# Altium integrated library TI Amplifiers and Linear Special Function Amplifier.IntLib: 708 symbols (part 40 of 47)
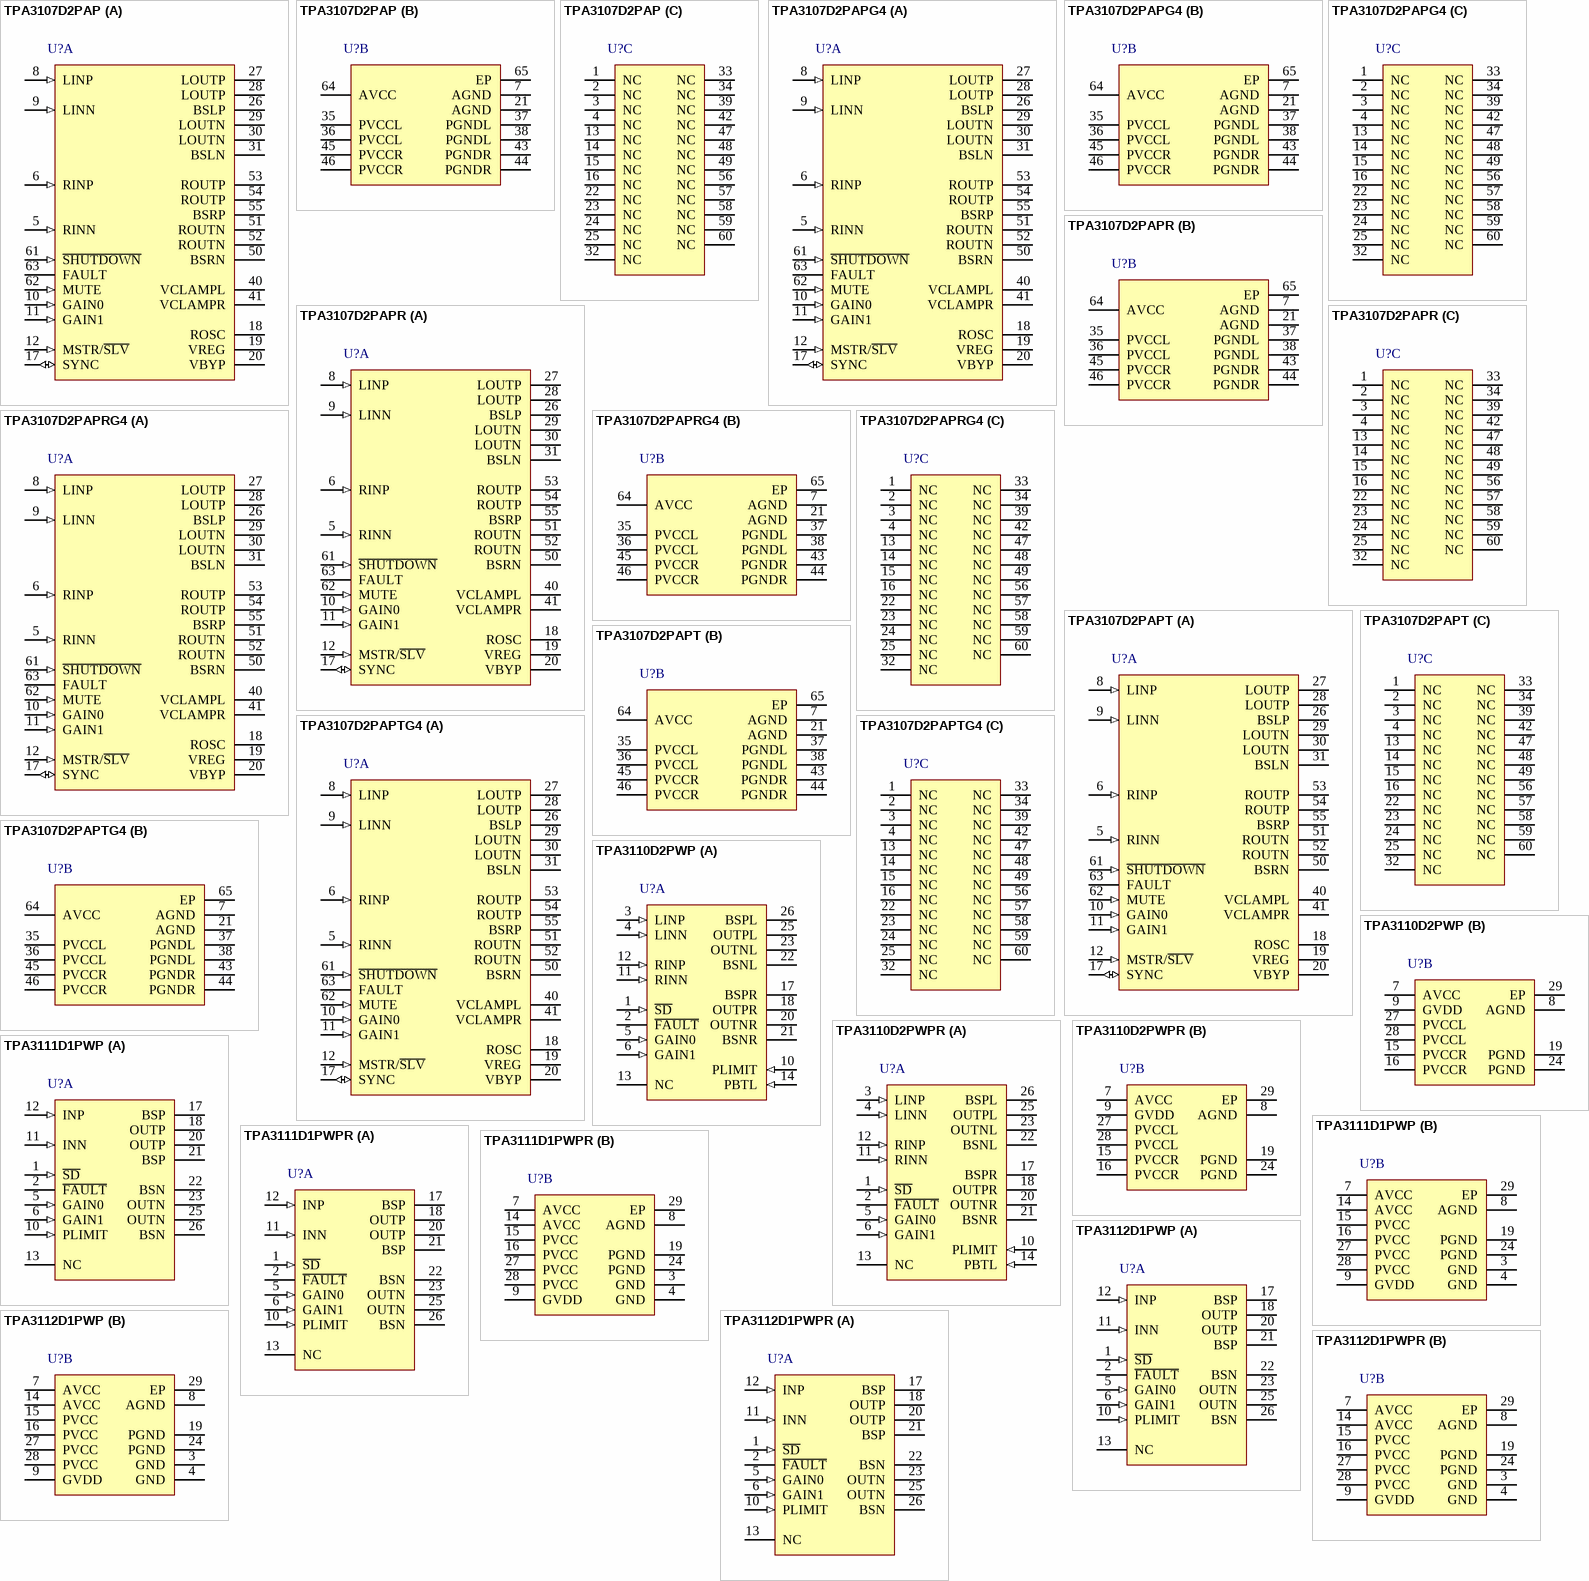
[diagram p78: symbols TPA3107D2PAP to TPA3112D1PWPR]

## TPA3107D2PAPG4
designator U?
15 W Stereo Class-D Audio Power Amplifier, -40 to 85 degC, 64-pin QFP (PAP64), Green (RoHS & no Sb/Br); Manufacturer: Texas Instruments; PartNumber: TPA3107D2PAPG4; Analog Supply Max [V]: 26; Analog Supply Min [V]: 10; Input Type: Analog; Max. Number of Speaker Outputs: 2; SubFamily: Mid/High-Power Amplifier; DatasheetVersion: SLOS509B; PackageVersion: 4147702/C, 08/2003; PackageReference: PAP64-4935X4935TP; PackageDescription: 64-Pin Plastic Flat Pack, Body 10 x 10 mm, Pitch 0.5 mm; Supplier 1: Digi-Key; Supplier Part Number 1: TPA3107D2PAPG4-ND; Supplier 2: Mouser; Supplier Part Number 2: 595-TPA3107D2PAPG4; Eco-Plan: Green (RoHS & no Sb/Br); Power Stage Supply Min(V): 10; Mounting Technology: Surface Mount; Code_JEDEC: MS-026; ComponentLink1Description: Manufacturer URL; ComponentLink1URL: http://www.ti.com/; ComponentLink2Description: Datasheet; ComponentLink2URL: http://www.ti.com/general/docs/lit/getliterature.tsp?genericPartNumber=TPA3107D2&fileType=pdf; ComponentLink3Description: Package Specification; ComponentLink3URL: http://www.ti.com/litv/pdf/mpdi001b
footprint TI-PAP64-4935X4935TP_N (QFP, 64-Leads, Body 10x10mm, Pitch 0.5mm, Thermal Pad 5.3x5.3mm, IPC Medium Density)
footprint TI-PAP64-4935X4935TP_L (QFP, 64-Leads, Body 10x10mm, Pitch 0.5mm, Thermal Pad 5.3x5.3mm, IPC High Density)
footprint TI-PAP64-4935X4935TP_M (QFP, 64-Leads, Body 10x10mm, Pitch 0.5mm, Thermal Pad 5.3x5.3mm, IPC Low Density)
part A pins: 5 RINN (in) "Negative audio input for right channel. Biased at VREG/2.", 6 RINP (in) "Positive audio input for right channel. Biased at VREG/2.", 8 LINP (in) "Positive audio input for left channel. Biased at VREG/2.", 9 LINN (in) "Negative audio input for left channel. Biased at VREG/2.", 10 GAIN0 (in) "Gain select least significant bit. TTL logic levels with compliance to VREG.", 11 GAIN1 (in) "Gain select least significant bit. TTL logic levels with compliance to VREG.", 12 MSTR/~{SLV} (in) "Master/Slave select for determining direction of SYNC terminal.HIGH=Master mode, SYNC terminal is an output; LOW = slave mode, SYNC terminal accepts a clock input. TTL logic levels with compliance to VREG.", 17 SYNC (io) "Clock input/output for synchronizing multiple class-D devices. Direction determined by MSTR/S\L\V\ terminal. Input signal not to exceed VREG", 18 ROSC "I/O for current setting resistor of ramp generator", 19 VREG "4-V regulated output for use by internal cells, GAINx, MUTE, and MSTR/S\L\V\ pins only. Not specified for driving other external circuitry.", 20 VBYP "Reference for preamplifier. Nominally equal to 1.25 V. Also controls start-up time via external capacitor sizing.", 26 BSLP "Bootstrap I/O for left channel, positive high-side FET.", 27 LOUTP (hiz) "Class-D 1/2-H-bridge positive output for left channel.", 28 LOUTP (hiz) "Class-D 1/2-H-bridge positive output for left channel.", 29 LOUTN (hiz) "Class-D 1/2-H-bridge negative output for left channel.", 30 LOUTN (hiz) "Class-D 1/2-H-bridge negative output for left channel.", 31 BSLN "Bootstrap I/O for left channel, negative high-side FET.", 40 VCLAMPL "Internally generated voltage supply for left channel bootstrap capacitor.", 41 VCLAMPR "Internally generated voltage supply for right channel bootstrap capacitor.", 50 BSRN "Bootstrap I/O for right channel, negative high-side FET.", 51 ROUTN (hiz) "Class-D 1/2-H-bridge negative output for right channel.", 52 ROUTN (hiz) "Class-D 1/2-H-bridge negative output for right channel.", 53 ROUTP (hiz) "Class-D 1/2-H-bridge positive output for right channel", 54 ROUTP (hiz) "Class-D 1/2-H-bridge positive output for right channel", 55 BSRP "Bootstrap I/O for right channel, positive high-side FET.", 61 ~{SHUTDOWN} (in) "Shutdown signal for IC (LOW = disabled, HIGH = operational). TTL logic levels with compliance to AVCC.", 62 MUTE (in) "Mute signal for quick disable/enable of outputs (HIGH = outputs high-Z, LOW = outputs enabled). TTL logic levels with compliance to AVCC.", 63 FAULT (hiz) "TTL compatible output. HIGH = short-circuit fault. LOW = no fault. Only reports short-circuit faults. Thermal faults are not reported on this terminal."
part B pins: 7 AGND (power) "Analog ground for digital/analog cells in core.", 21 AGND (power) "Analog ground for digital/analog cells in core.", 35 PVCCL (power) "Power supply for left channel H-bridge, not internally connected to PVCCR or AVCC.", 36 PVCCL (power) "Power supply for left channel H-bridge, not internally connected to PVCCR or AVCC.", 37 PGNDL (power) "Power ground for left channel H-bridge.", 38 PGNDL (power) "Power ground for left channel H-bridge.", 43 PGNDR (power) "Power ground for right channel H-bridge.", 44 PGNDR (power) "Power ground for right channel H-bridge.", 45 PVCCR (power) "Power supply for right channel H-bridge, not connected to PVCCL or AVCC", 46 PVCCR (power) "Power supply for right channel H-bridge, not connected to PVCCL or AVCC", 64 AVCC (power) "High-voltage analog power supply. Not internally connected to PVCCR or PVCCL.", 65 EP (power) "Connect to AGND and PGND - should be star point for both grounds. Internal resistive connection to AGND and PGND. Thermal vias on the PCB should connect this pad to a large copper area on an internal or bottom layer for the (See Datasheet)"
part C pins: 1 NC "Not internally connected", 2 NC "Not internally connected", 3 NC "Not internally connected", 4 NC "Not internally connected", 13 NC "Not internally connected", 14 NC "Not internally connected", 15 NC "Not internally connected", 16 NC "Not internally connected", 22 NC "Not internally connected", 23 NC "Not internally connected", 24 NC "Not internally connected", 25 NC "Not internally connected", 32 NC "Not internally connected", 33 NC "Not internally connected", 34 NC "Not internally connected", 39 NC "Not internally connected", 42 NC "Not internally connected", 47 NC "Not internally connected", 48 NC "Not internally connected", 49 NC "Not internally connected", 56 NC "Not internally connected", 57 NC "Not internally connected", 58 NC "Not internally connected", 59 NC "Not internally connected", 60 NC "Not internally connected"

## TPA3107D2PAPR
designator U?
15 W Stereo Class-D Audio Power Amplifier, -40 to 85 degC, 64-pin QFP (PAP64), Green (RoHS & no Sb/Br); Manufacturer: Texas Instruments; PartNumber: TPA3107D2PAPR; Analog Supply Max [V]: 26; Analog Supply Min [V]: 10; Input Type: Analog; Max. Number of Speaker Outputs: 2; SubFamily: Mid/High-Power Amplifier; DatasheetVersion: SLOS509B; PackageVersion: 4147702/C, 08/2003; PackageReference: PAP64-4935X4935TP; PackageDescription: 64-Pin Plastic Flat Pack, Body 10 x 10 mm, Pitch 0.5 mm; Supplier 1: Digi-Key; Supplier Part Number 1: 296-21343-2-ND; Supplier 2: Digi-Key; Supplier Part Number 2: 296-21343-1-ND; Supplier 3: Digi-Key; Supplier Part Number 3: 296-21343-6-ND; Supplier 4: Mouser; Supplier Part Number 4: 595-TPA3107D2PAPR; Eco-Plan: Green (RoHS & no Sb/Br); Power Stage Supply Min(V): 10; Mounting Technology: Surface Mount; Code_JEDEC: MS-026; ComponentLink1Description: Manufacturer URL; ComponentLink1URL: http://www.ti.com/; ComponentLink2Description: Datasheet; ComponentLink2URL: http://www.ti.com/general/docs/lit/getliterature.tsp?genericPartNumber=TPA3107D2&fileType=pdf; ComponentLink3Description: Package Specification; ComponentLink3URL: http://www.ti.com/litv/pdf/mpdi001b
footprint TI-PAP64-4935X4935TP_N (QFP, 64-Leads, Body 10x10mm, Pitch 0.5mm, Thermal Pad 5.3x5.3mm, IPC Medium Density)
footprint TI-PAP64-4935X4935TP_L (QFP, 64-Leads, Body 10x10mm, Pitch 0.5mm, Thermal Pad 5.3x5.3mm, IPC High Density)
footprint TI-PAP64-4935X4935TP_M (QFP, 64-Leads, Body 10x10mm, Pitch 0.5mm, Thermal Pad 5.3x5.3mm, IPC Low Density)
part A pins: 5 RINN (in) "Negative audio input for right channel. Biased at VREG/2.", 6 RINP (in) "Positive audio input for right channel. Biased at VREG/2.", 8 LINP (in) "Positive audio input for left channel. Biased at VREG/2.", 9 LINN (in) "Negative audio input for left channel. Biased at VREG/2.", 10 GAIN0 (in) "Gain select least significant bit. TTL logic levels with compliance to VREG.", 11 GAIN1 (in) "Gain select least significant bit. TTL logic levels with compliance to VREG.", 12 MSTR/~{SLV} (in) "Master/Slave select for determining direction of SYNC terminal.HIGH=Master mode, SYNC terminal is an output; LOW = slave mode, SYNC terminal accepts a clock input. TTL logic levels with compliance to VREG.", 17 SYNC (io) "Clock input/output for synchronizing multiple class-D devices. Direction determined by MSTR/S\L\V\ terminal. Input signal not to exceed VREG", 18 ROSC "I/O for current setting resistor of ramp generator", 19 VREG "4-V regulated output for use by internal cells, GAINx, MUTE, and MSTR/S\L\V\ pins only. Not specified for driving other external circuitry.", 20 VBYP "Reference for preamplifier. Nominally equal to 1.25 V. Also controls start-up time via external capacitor sizing.", 26 BSLP "Bootstrap I/O for left channel, positive high-side FET.", 27 LOUTP (hiz) "Class-D 1/2-H-bridge positive output for left channel.", 28 LOUTP (hiz) "Class-D 1/2-H-bridge positive output for left channel.", 29 LOUTN (hiz) "Class-D 1/2-H-bridge negative output for left channel.", 30 LOUTN (hiz) "Class-D 1/2-H-bridge negative output for left channel.", 31 BSLN "Bootstrap I/O for left channel, negative high-side FET.", 40 VCLAMPL "Internally generated voltage supply for left channel bootstrap capacitor.", 41 VCLAMPR "Internally generated voltage supply for right channel bootstrap capacitor.", 50 BSRN "Bootstrap I/O for right channel, negative high-side FET.", 51 ROUTN (hiz) "Class-D 1/2-H-bridge negative output for right channel.", 52 ROUTN (hiz) "Class-D 1/2-H-bridge negative output for right channel.", 53 ROUTP (hiz) "Class-D 1/2-H-bridge positive output for right channel", 54 ROUTP (hiz) "Class-D 1/2-H-bridge positive output for right channel", 55 BSRP "Bootstrap I/O for right channel, positive high-side FET.", 61 ~{SHUTDOWN} (in) "Shutdown signal for IC (LOW = disabled, HIGH = operational). TTL logic levels with compliance to AVCC.", 62 MUTE (in) "Mute signal for quick disable/enable of outputs (HIGH = outputs high-Z, LOW = outputs enabled). TTL logic levels with compliance to AVCC.", 63 FAULT (hiz) "TTL compatible output. HIGH = short-circuit fault. LOW = no fault. Only reports short-circuit faults. Thermal faults are not reported on this terminal."
part B pins: 7 AGND (power) "Analog ground for digital/analog cells in core.", 21 AGND (power) "Analog ground for digital/analog cells in core.", 35 PVCCL (power) "Power supply for left channel H-bridge, not internally connected to PVCCR or AVCC.", 36 PVCCL (power) "Power supply for left channel H-bridge, not internally connected to PVCCR or AVCC.", 37 PGNDL (power) "Power ground for left channel H-bridge.", 38 PGNDL (power) "Power ground for left channel H-bridge.", 43 PGNDR (power) "Power ground for right channel H-bridge.", 44 PGNDR (power) "Power ground for right channel H-bridge.", 45 PVCCR (power) "Power supply for right channel H-bridge, not connected to PVCCL or AVCC", 46 PVCCR (power) "Power supply for right channel H-bridge, not connected to PVCCL or AVCC", 64 AVCC (power) "High-voltage analog power supply. Not internally connected to PVCCR or PVCCL.", 65 EP (power) "Connect to AGND and PGND - should be star point for both grounds. Internal resistive connection to AGND and PGND. Thermal vias on the PCB should connect this pad to a large copper area on an internal or bottom layer for the (See Datasheet)"
part C pins: 1 NC "Not internally connected", 2 NC "Not internally connected", 3 NC "Not internally connected", 4 NC "Not internally connected", 13 NC "Not internally connected", 14 NC "Not internally connected", 15 NC "Not internally connected", 16 NC "Not internally connected", 22 NC "Not internally connected", 23 NC "Not internally connected", 24 NC "Not internally connected", 25 NC "Not internally connected", 32 NC "Not internally connected", 33 NC "Not internally connected", 34 NC "Not internally connected", 39 NC "Not internally connected", 42 NC "Not internally connected", 47 NC "Not internally connected", 48 NC "Not internally connected", 49 NC "Not internally connected", 56 NC "Not internally connected", 57 NC "Not internally connected", 58 NC "Not internally connected", 59 NC "Not internally connected", 60 NC "Not internally connected"

## TPA3107D2PAPRG4
designator U?
15 W Stereo Class-D Audio Power Amplifier, -40 to 85 degC, 64-pin QFP (PAP64), Green (RoHS & no Sb/Br); Manufacturer: Texas Instruments; PartNumber: TPA3107D2PAPRG4; Analog Supply Max [V]: 26; Analog Supply Min [V]: 10; Input Type: Analog; Max. Number of Speaker Outputs: 2; SubFamily: Mid/High-Power Amplifier; DatasheetVersion: SLOS509B; PackageVersion: 4147702/C, 08/2003; PackageReference: PAP64-4935X4935TP; PackageDescription: 64-Pin Plastic Flat Pack, Body 10 x 10 mm, Pitch 0.5 mm; Supplier 1: Digi-Key; Supplier Part Number 1: TPA3107D2PAPRG4-ND; Supplier 2: Newark; Supplier Part Number 2: 27M1067; Supplier 3: Mouser; Supplier Part Number 3: 595-TPA3107D2PAPRG4; Eco-Plan: Green (RoHS & no Sb/Br); Power Stage Supply Min(V): 10; Mounting Technology: Surface Mount; Code_JEDEC: MS-026; ComponentLink1Description: Manufacturer URL; ComponentLink1URL: http://www.ti.com/; ComponentLink2Description: Datasheet; ComponentLink2URL: http://www.ti.com/general/docs/lit/getliterature.tsp?genericPartNumber=TPA3107D2&fileType=pdf; ComponentLink3Description: Package Specification; ComponentLink3URL: http://www.ti.com/litv/pdf/mpdi001b
footprint TI-PAP64-4935X4935TP_N (QFP, 64-Leads, Body 10x10mm, Pitch 0.5mm, Thermal Pad 5.3x5.3mm, IPC Medium Density)
footprint TI-PAP64-4935X4935TP_L (QFP, 64-Leads, Body 10x10mm, Pitch 0.5mm, Thermal Pad 5.3x5.3mm, IPC High Density)
footprint TI-PAP64-4935X4935TP_M (QFP, 64-Leads, Body 10x10mm, Pitch 0.5mm, Thermal Pad 5.3x5.3mm, IPC Low Density)
part A pins: 5 RINN (in) "Negative audio input for right channel. Biased at VREG/2.", 6 RINP (in) "Positive audio input for right channel. Biased at VREG/2.", 8 LINP (in) "Positive audio input for left channel. Biased at VREG/2.", 9 LINN (in) "Negative audio input for left channel. Biased at VREG/2.", 10 GAIN0 (in) "Gain select least significant bit. TTL logic levels with compliance to VREG.", 11 GAIN1 (in) "Gain select least significant bit. TTL logic levels with compliance to VREG.", 12 MSTR/~{SLV} (in) "Master/Slave select for determining direction of SYNC terminal.HIGH=Master mode, SYNC terminal is an output; LOW = slave mode, SYNC terminal accepts a clock input. TTL logic levels with compliance to VREG.", 17 SYNC (io) "Clock input/output for synchronizing multiple class-D devices. Direction determined by MSTR/S\L\V\ terminal. Input signal not to exceed VREG", 18 ROSC "I/O for current setting resistor of ramp generator", 19 VREG "4-V regulated output for use by internal cells, GAINx, MUTE, and MSTR/S\L\V\ pins only. Not specified for driving other external circuitry.", 20 VBYP "Reference for preamplifier. Nominally equal to 1.25 V. Also controls start-up time via external capacitor sizing.", 26 BSLP "Bootstrap I/O for left channel, positive high-side FET.", 27 LOUTP (hiz) "Class-D 1/2-H-bridge positive output for left channel.", 28 LOUTP (hiz) "Class-D 1/2-H-bridge positive output for left channel.", 29 LOUTN (hiz) "Class-D 1/2-H-bridge negative output for left channel.", 30 LOUTN (hiz) "Class-D 1/2-H-bridge negative output for left channel.", 31 BSLN "Bootstrap I/O for left channel, negative high-side FET.", 40 VCLAMPL "Internally generated voltage supply for left channel bootstrap capacitor.", 41 VCLAMPR "Internally generated voltage supply for right channel bootstrap capacitor.", 50 BSRN "Bootstrap I/O for right channel, negative high-side FET.", 51 ROUTN (hiz) "Class-D 1/2-H-bridge negative output for right channel.", 52 ROUTN (hiz) "Class-D 1/2-H-bridge negative output for right channel.", 53 ROUTP (hiz) "Class-D 1/2-H-bridge positive output for right channel", 54 ROUTP (hiz) "Class-D 1/2-H-bridge positive output for right channel", 55 BSRP "Bootstrap I/O for right channel, positive high-side FET.", 61 ~{SHUTDOWN} (in) "Shutdown signal for IC (LOW = disabled, HIGH = operational). TTL logic levels with compliance to AVCC.", 62 MUTE (in) "Mute signal for quick disable/enable of outputs (HIGH = outputs high-Z, LOW = outputs enabled). TTL logic levels with compliance to AVCC.", 63 FAULT (hiz) "TTL compatible output. HIGH = short-circuit fault. LOW = no fault. Only reports short-circuit faults. Thermal faults are not reported on this terminal."
part B pins: 7 AGND (power) "Analog ground for digital/analog cells in core.", 21 AGND (power) "Analog ground for digital/analog cells in core.", 35 PVCCL (power) "Power supply for left channel H-bridge, not internally connected to PVCCR or AVCC.", 36 PVCCL (power) "Power supply for left channel H-bridge, not internally connected to PVCCR or AVCC.", 37 PGNDL (power) "Power ground for left channel H-bridge.", 38 PGNDL (power) "Power ground for left channel H-bridge.", 43 PGNDR (power) "Power ground for right channel H-bridge.", 44 PGNDR (power) "Power ground for right channel H-bridge.", 45 PVCCR (power) "Power supply for right channel H-bridge, not connected to PVCCL or AVCC", 46 PVCCR (power) "Power supply for right channel H-bridge, not connected to PVCCL or AVCC", 64 AVCC (power) "High-voltage analog power supply. Not internally connected to PVCCR or PVCCL.", 65 EP (power) "Connect to AGND and PGND - should be star point for both grounds. Internal resistive connection to AGND and PGND. Thermal vias on the PCB should connect this pad to a large copper area on an internal or bottom layer for the (See Datasheet)"
part C pins: 1 NC "Not internally connected", 2 NC "Not internally connected", 3 NC "Not internally connected", 4 NC "Not internally connected", 13 NC "Not internally connected", 14 NC "Not internally connected", 15 NC "Not internally connected", 16 NC "Not internally connected", 22 NC "Not internally connected", 23 NC "Not internally connected", 24 NC "Not internally connected", 25 NC "Not internally connected", 32 NC "Not internally connected", 33 NC "Not internally connected", 34 NC "Not internally connected", 39 NC "Not internally connected", 42 NC "Not internally connected", 47 NC "Not internally connected", 48 NC "Not internally connected", 49 NC "Not internally connected", 56 NC "Not internally connected", 57 NC "Not internally connected", 58 NC "Not internally connected", 59 NC "Not internally connected", 60 NC "Not internally connected"

## TPA3107D2PAPT
designator U?
15 W Stereo Class-D Audio Power Amplifier, -40 to 85 degC, 64-pin QFP (PAP64), Green (RoHS & no Sb/Br); Manufacturer: Texas Instruments; PartNumber: TPA3107D2PAPT; Analog Supply Max [V]: 26; Analog Supply Min [V]: 10; Input Type: Analog; Max. Number of Speaker Outputs: 2; SubFamily: Mid/High-Power Amplifier; DatasheetVersion: SLOS509B; PackageVersion: 4147702/C, 08/2003; PackageReference: PAP64-4935X4935TP; PackageDescription: 64-Pin Plastic Flat Pack, Body 10 x 10 mm, Pitch 0.5 mm; Supplier 1: Digi-Key; Supplier Part Number 1: TPA3107D2PAPT-ND; Supplier 2: Mouser; Supplier Part Number 2: 595-TPA3107D2PAPT; Eco-Plan: Green (RoHS & no Sb/Br); Power Stage Supply Min(V): 10; Mounting Technology: Surface Mount; Code_JEDEC: MS-026; ComponentLink1Description: Manufacturer URL; ComponentLink1URL: http://www.ti.com/; ComponentLink2Description: Datasheet; ComponentLink2URL: http://www.ti.com/general/docs/lit/getliterature.tsp?genericPartNumber=TPA3107D2&fileType=pdf; ComponentLink3Description: Package Specification; ComponentLink3URL: http://www.ti.com/litv/pdf/mpdi001b
footprint TI-PAP64-4935X4935TP_N (QFP, 64-Leads, Body 10x10mm, Pitch 0.5mm, Thermal Pad 5.3x5.3mm, IPC Medium Density)
footprint TI-PAP64-4935X4935TP_L (QFP, 64-Leads, Body 10x10mm, Pitch 0.5mm, Thermal Pad 5.3x5.3mm, IPC High Density)
footprint TI-PAP64-4935X4935TP_M (QFP, 64-Leads, Body 10x10mm, Pitch 0.5mm, Thermal Pad 5.3x5.3mm, IPC Low Density)
part A pins: 5 RINN (in) "Negative audio input for right channel. Biased at VREG/2.", 6 RINP (in) "Positive audio input for right channel. Biased at VREG/2.", 8 LINP (in) "Positive audio input for left channel. Biased at VREG/2.", 9 LINN (in) "Negative audio input for left channel. Biased at VREG/2.", 10 GAIN0 (in) "Gain select least significant bit. TTL logic levels with compliance to VREG.", 11 GAIN1 (in) "Gain select least significant bit. TTL logic levels with compliance to VREG.", 12 MSTR/~{SLV} (in) "Master/Slave select for determining direction of SYNC terminal.HIGH=Master mode, SYNC terminal is an output; LOW = slave mode, SYNC terminal accepts a clock input. TTL logic levels with compliance to VREG.", 17 SYNC (io) "Clock input/output for synchronizing multiple class-D devices. Direction determined by MSTR/S\L\V\ terminal. Input signal not to exceed VREG", 18 ROSC "I/O for current setting resistor of ramp generator", 19 VREG "4-V regulated output for use by internal cells, GAINx, MUTE, and MSTR/S\L\V\ pins only. Not specified for driving other external circuitry.", 20 VBYP "Reference for preamplifier. Nominally equal to 1.25 V. Also controls start-up time via external capacitor sizing.", 26 BSLP "Bootstrap I/O for left channel, positive high-side FET.", 27 LOUTP (hiz) "Class-D 1/2-H-bridge positive output for left channel.", 28 LOUTP (hiz) "Class-D 1/2-H-bridge positive output for left channel.", 29 LOUTN (hiz) "Class-D 1/2-H-bridge negative output for left channel.", 30 LOUTN (hiz) "Class-D 1/2-H-bridge negative output for left channel.", 31 BSLN "Bootstrap I/O for left channel, negative high-side FET.", 40 VCLAMPL "Internally generated voltage supply for left channel bootstrap capacitor.", 41 VCLAMPR "Internally generated voltage supply for right channel bootstrap capacitor.", 50 BSRN "Bootstrap I/O for right channel, negative high-side FET.", 51 ROUTN (hiz) "Class-D 1/2-H-bridge negative output for right channel.", 52 ROUTN (hiz) "Class-D 1/2-H-bridge negative output for right channel.", 53 ROUTP (hiz) "Class-D 1/2-H-bridge positive output for right channel", 54 ROUTP (hiz) "Class-D 1/2-H-bridge positive output for right channel", 55 BSRP "Bootstrap I/O for right channel, positive high-side FET.", 61 ~{SHUTDOWN} (in) "Shutdown signal for IC (LOW = disabled, HIGH = operational). TTL logic levels with compliance to AVCC.", 62 MUTE (in) "Mute signal for quick disable/enable of outputs (HIGH = outputs high-Z, LOW = outputs enabled). TTL logic levels with compliance to AVCC.", 63 FAULT (hiz) "TTL compatible output. HIGH = short-circuit fault. LOW = no fault. Only reports short-circuit faults. Thermal faults are not reported on this terminal."
part B pins: 7 AGND (power) "Analog ground for digital/analog cells in core.", 21 AGND (power) "Analog ground for digital/analog cells in core.", 35 PVCCL (power) "Power supply for left channel H-bridge, not internally connected to PVCCR or AVCC.", 36 PVCCL (power) "Power supply for left channel H-bridge, not internally connected to PVCCR or AVCC.", 37 PGNDL (power) "Power ground for left channel H-bridge.", 38 PGNDL (power) "Power ground for left channel H-bridge.", 43 PGNDR (power) "Power ground for right channel H-bridge.", 44 PGNDR (power) "Power ground for right channel H-bridge.", 45 PVCCR (power) "Power supply for right channel H-bridge, not connected to PVCCL or AVCC", 46 PVCCR (power) "Power supply for right channel H-bridge, not connected to PVCCL or AVCC", 64 AVCC (power) "High-voltage analog power supply. Not internally connected to PVCCR or PVCCL.", 65 EP (power) "Connect to AGND and PGND - should be star point for both grounds. Internal resistive connection to AGND and PGND. Thermal vias on the PCB should connect this pad to a large copper area on an internal or bottom layer for the (See Datasheet)"
part C pins: 1 NC "Not internally connected", 2 NC "Not internally connected", 3 NC "Not internally connected", 4 NC "Not internally connected", 13 NC "Not internally connected", 14 NC "Not internally connected", 15 NC "Not internally connected", 16 NC "Not internally connected", 22 NC "Not internally connected", 23 NC "Not internally connected", 24 NC "Not internally connected", 25 NC "Not internally connected", 32 NC "Not internally connected", 33 NC "Not internally connected", 34 NC "Not internally connected", 39 NC "Not internally connected", 42 NC "Not internally connected", 47 NC "Not internally connected", 48 NC "Not internally connected", 49 NC "Not internally connected", 56 NC "Not internally connected", 57 NC "Not internally connected", 58 NC "Not internally connected", 59 NC "Not internally connected", 60 NC "Not internally connected"

## TPA3107D2PAPTG4
designator U?
15 W Stereo Class-D Audio Power Amplifier, -40 to 85 degC, 64-pin QFP (PAP64), Green (RoHS & no Sb/Br); Manufacturer: Texas Instruments; PartNumber: TPA3107D2PAPTG4; Analog Supply Max [V]: 26; Analog Supply Min [V]: 10; Input Type: Analog; Max. Number of Speaker Outputs: 2; SubFamily: Mid/High-Power Amplifier; DatasheetVersion: SLOS509B; PackageVersion: 4147702/C, 08/2003; PackageReference: PAP64-4935X4935TP; PackageDescription: 64-Pin Plastic Flat Pack, Body 10 x 10 mm, Pitch 0.5 mm; Supplier 1: Digi-Key; Supplier Part Number 1: TPA3107D2PAPTG4-ND; Supplier 2: Newark; Supplier Part Number 2: 27M1068; Supplier 3: Mouser; Supplier Part Number 3: 595-TPA3107D2PAPTG4; Eco-Plan: Green (RoHS & no Sb/Br); Power Stage Supply Min(V): 10; Mounting Technology: Surface Mount; Code_JEDEC: MS-026; ComponentLink1Description: Manufacturer URL; ComponentLink1URL: http://www.ti.com/; ComponentLink2Description: Datasheet; ComponentLink2URL: http://www.ti.com/general/docs/lit/getliterature.tsp?genericPartNumber=TPA3107D2&fileType=pdf; ComponentLink3Description: Package Specification; ComponentLink3URL: http://www.ti.com/litv/pdf/mpdi001b
footprint TI-PAP64-4935X4935TP_N (QFP, 64-Leads, Body 10x10mm, Pitch 0.5mm, Thermal Pad 5.3x5.3mm, IPC Medium Density)
footprint TI-PAP64-4935X4935TP_L (QFP, 64-Leads, Body 10x10mm, Pitch 0.5mm, Thermal Pad 5.3x5.3mm, IPC High Density)
footprint TI-PAP64-4935X4935TP_M (QFP, 64-Leads, Body 10x10mm, Pitch 0.5mm, Thermal Pad 5.3x5.3mm, IPC Low Density)
part A pins: 5 RINN (in) "Negative audio input for right channel. Biased at VREG/2.", 6 RINP (in) "Positive audio input for right channel. Biased at VREG/2.", 8 LINP (in) "Positive audio input for left channel. Biased at VREG/2.", 9 LINN (in) "Negative audio input for left channel. Biased at VREG/2.", 10 GAIN0 (in) "Gain select least significant bit. TTL logic levels with compliance to VREG.", 11 GAIN1 (in) "Gain select least significant bit. TTL logic levels with compliance to VREG.", 12 MSTR/~{SLV} (in) "Master/Slave select for determining direction of SYNC terminal.HIGH=Master mode, SYNC terminal is an output; LOW = slave mode, SYNC terminal accepts a clock input. TTL logic levels with compliance to VREG.", 17 SYNC (io) "Clock input/output for synchronizing multiple class-D devices. Direction determined by MSTR/S\L\V\ terminal. Input signal not to exceed VREG", 18 ROSC "I/O for current setting resistor of ramp generator", 19 VREG "4-V regulated output for use by internal cells, GAINx, MUTE, and MSTR/S\L\V\ pins only. Not specified for driving other external circuitry.", 20 VBYP "Reference for preamplifier. Nominally equal to 1.25 V. Also controls start-up time via external capacitor sizing.", 26 BSLP "Bootstrap I/O for left channel, positive high-side FET.", 27 LOUTP (hiz) "Class-D 1/2-H-bridge positive output for left channel.", 28 LOUTP (hiz) "Class-D 1/2-H-bridge positive output for left channel.", 29 LOUTN (hiz) "Class-D 1/2-H-bridge negative output for left channel.", 30 LOUTN (hiz) "Class-D 1/2-H-bridge negative output for left channel.", 31 BSLN "Bootstrap I/O for left channel, negative high-side FET.", 40 VCLAMPL "Internally generated voltage supply for left channel bootstrap capacitor.", 41 VCLAMPR "Internally generated voltage supply for right channel bootstrap capacitor.", 50 BSRN "Bootstrap I/O for right channel, negative high-side FET.", 51 ROUTN (hiz) "Class-D 1/2-H-bridge negative output for right channel.", 52 ROUTN (hiz) "Class-D 1/2-H-bridge negative output for right channel.", 53 ROUTP (hiz) "Class-D 1/2-H-bridge positive output for right channel", 54 ROUTP (hiz) "Class-D 1/2-H-bridge positive output for right channel", 55 BSRP "Bootstrap I/O for right channel, positive high-side FET.", 61 ~{SHUTDOWN} (in) "Shutdown signal for IC (LOW = disabled, HIGH = operational). TTL logic levels with compliance to AVCC.", 62 MUTE (in) "Mute signal for quick disable/enable of outputs (HIGH = outputs high-Z, LOW = outputs enabled). TTL logic levels with compliance to AVCC.", 63 FAULT (hiz) "TTL compatible output. HIGH = short-circuit fault. LOW = no fault. Only reports short-circuit faults. Thermal faults are not reported on this terminal."
part B pins: 7 AGND (power) "Analog ground for digital/analog cells in core.", 21 AGND (power) "Analog ground for digital/analog cells in core.", 35 PVCCL (power) "Power supply for left channel H-bridge, not internally connected to PVCCR or AVCC.", 36 PVCCL (power) "Power supply for left channel H-bridge, not internally connected to PVCCR or AVCC.", 37 PGNDL (power) "Power ground for left channel H-bridge.", 38 PGNDL (power) "Power ground for left channel H-bridge.", 43 PGNDR (power) "Power ground for right channel H-bridge.", 44 PGNDR (power) "Power ground for right channel H-bridge.", 45 PVCCR (power) "Power supply for right channel H-bridge, not connected to PVCCL or AVCC", 46 PVCCR (power) "Power supply for right channel H-bridge, not connected to PVCCL or AVCC", 64 AVCC (power) "High-voltage analog power supply. Not internally connected to PVCCR or PVCCL.", 65 EP (power) "Connect to AGND and PGND - should be star point for both grounds. Internal resistive connection to AGND and PGND. Thermal vias on the PCB should connect this pad to a large copper area on an internal or bottom layer for the (See Datasheet)"
part C pins: 1 NC "Not internally connected", 2 NC "Not internally connected", 3 NC "Not internally connected", 4 NC "Not internally connected", 13 NC "Not internally connected", 14 NC "Not internally connected", 15 NC "Not internally connected", 16 NC "Not internally connected", 22 NC "Not internally connected", 23 NC "Not internally connected", 24 NC "Not internally connected", 25 NC "Not internally connected", 32 NC "Not internally connected", 33 NC "Not internally connected", 34 NC "Not internally connected", 39 NC "Not internally connected", 42 NC "Not internally connected", 47 NC "Not internally connected", 48 NC "Not internally connected", 49 NC "Not internally connected", 56 NC "Not internally connected", 57 NC "Not internally connected", 58 NC "Not internally connected", 59 NC "Not internally connected", 60 NC "Not internally connected"

## TPA3110D2PWP
designator U?
15 W Filter-Free Class D Stereo Amplifier with SpeakerGuard(TM), -40 to 85 degC, 28-pin SOP (PWP28), Green (RoHS & no Sb/Br); Manufacturer: Texas Instruments; PartNumber: TPA3110D2PWP; Analog Supply Max [V]: 26; Analog Supply Min [V]: 8; Input Type: Analog; Max. Number of Speaker Outputs: 2; SubFamily: Mid/High-Power Amplifier; DatasheetVersion: SLOS528D; PackageVersion: 4073225-6/I, 05/2011; PackageReference: PWP28-5720X1950TP; PackageDescription: 28-Pin Plastic Small Outline, Body 4.4 x 9.7 mm, Pitch 0.65 mm; Supplier 1: Digi-Key; Supplier Part Number 1: 296-24968-5-ND; Supplier 2: Farnell; Supplier Part Number 2: 1762986; Supplier 3: Mouser; Supplier Part Number 3: 595-TPA3110D2PWP; Eco-Plan: Green (RoHS & no Sb/Br); Power Stage Supply Min(V): 8; Mounting Technology: Surface Mount; Code_JEDEC: MO-153; ComponentLink1Description: Manufacturer URL; ComponentLink1URL: http://www.ti.com/; ComponentLink2Description: Datasheet; ComponentLink2URL: http://www.ti.com/general/docs/lit/getliterature.tsp?genericPartNumber=TPA3110D2&fileType=pdf; ComponentLink3Description: Package Specification; ComponentLink3URL: http://www.ti.com/litv/pdf/mpds373
footprint TI-PWP28-5720X1950TP_N (SOP, 28-Leads, Body 9.8x4.5mm, Pitch 0.65mm, Thermal Pad 6.17x2.4mm, IPC Medium Density)
footprint TI-PWP28-5720X1950TP_L (SOP, 28-Leads, Body 9.8x4.5mm, Pitch 0.65mm, Thermal Pad 6.17x2.4mm, IPC High Density)
footprint TI-PWP28-5720X1950TP_M (SOP, 28-Leads, Body 9.8x4.5mm, Pitch 0.65mm, Thermal Pad 6.17x2.4mm, IPC Low Density)
part A pins: 1 ~{SD} (in) "Shutdown logic input for audio amp (LOW = outputs Hi-Z, HIGH = outputs enabled). TTL logic levels with compliance to AVCC.", 2 ~{FAULT} (oc) "Open drain output used to display short circuit or dc detect fault status. Voltage compliant to AVCC. Short circuit faults can be set to auto-recovery by connecting F\A\U\L\T\ pin to S\D\ pin. Otherwise, both short circuit (See Datasheet)", 3 LINP (in) "Positive audio input for left channel. Biased at 3V.", 4 LINN (in) "Negative audio input for left channel. Biased at 3V.", 5 GAIN0 (in) "Gain select least significant bit. TTL logic levels with compliance to AVCC.", 6 GAIN1 (in) "Gain select most significant bit. TTL logic levels with compliance to AVCC.", 10 PLIMIT (in) "Power limit level adjust. Connect a resistor divider from GVDD to GND to set power limit. Connect directly to GVDD for no power limit", 11 RINN (in) "Negative audio input for right channel. Biased at 3V.", 12 RINP (in) "Positive audio input for right channel. Biased at 3V.", 13 NC "Not connected", 14 PBTL (in) "Parallel BTL mode switch", 17 BSPR "Bootstrap I/O for right channel, positive high-side FET.", 18 OUTPR (hiz) "Class-D H-bridge positive output for right channel.", 20 OUTNR (hiz) "Class-D H-bridge negative output for right channel.", 21 BSNR "Bootstrap I/O for right channel, negative high-side FET.", 22 BSNL "Bootstrap I/O for left channel, negative high-side FET.", 23 OUTNL (hiz) "Class-D H-bridge negative output for left channel.", 25 OUTPL (hiz) "Class-D H-bridge positive output for left channel.", 26 BSPL "Bootstrap I/O for left channel, positive high-side FET."
part B pins: 7 AVCC (power) "Analog supply", 8 AGND (power) "Analog signal ground. Connect to the thermal pad.", 9 GVDD (power) "High-side FET gate drive supply. Nominal voltage is 7V. Also should be used as supply for PLIMIT function", 15 PVCCR (power) "Power supply for right channel H-bridge. Right channel and left channel power supply inputs are connect internally", 16 PVCCR (power) "Power supply for right channel H-bridge. Right channel and left channel power supply inputs are connect internally.", 19 PGND (power) "Power ground for the H-bridges.", 24 PGND (power) "Power ground for the H-bridges.", 27 PVCCL (power) "Power supply for left channel H-bridge. Right channel and left channel power supply inputs are connect internally", 28 PVCCL (power) "Power supply for left channel H-bridge. Right channel and left channel power supply inputs are connect internally", 29 EP (power)

## TPA3110D2PWPR
designator U?
15 W Filter-Free Class D Stereo Amplifier with SpeakerGuard(TM), -40 to 85 degC, 28-pin SOP (PWP28), Green (RoHS & no Sb/Br); Manufacturer: Texas Instruments; PartNumber: TPA3110D2PWPR; Analog Supply Max [V]: 26; Analog Supply Min [V]: 8; Input Type: Analog; Max. Number of Speaker Outputs: 2; SubFamily: Mid/High-Power Amplifier; DatasheetVersion: SLOS528D; PackageVersion: 4073225-6/I, 05/2011; PackageReference: PWP28-5720X1950TP; PackageDescription: 28-Pin Plastic Small Outline, Body 4.4 x 9.7 mm, Pitch 0.65 mm; Supplier 1: Digi-Key; Supplier Part Number 1: 296-24926-2-ND; Supplier 2: Digi-Key; Supplier Part Number 2: 296-24926-1-ND; Supplier 3: Digi-Key; Supplier Part Number 3: 296-24926-6-ND; Supplier 4: Farnell; Supplier Part Number 4: 2352262; Supplier 5: Newark; Supplier Part Number 5: 50R8085; Supplier 6: Newark; Supplier Part Number 6: 87W8576; Supplier 7: Mouser; Supplier Part Number 7: 595-TPA3110D2PWPR; Eco-Plan: Green (RoHS & no Sb/Br); Power Stage Supply Min(V): 8; Mounting Technology: Surface Mount; Code_JEDEC: MO-153; ComponentLink1Description: Manufacturer URL; ComponentLink1URL: http://www.ti.com/; ComponentLink2Description: Datasheet; ComponentLink2URL: http://www.ti.com/general/docs/lit/getliterature.tsp?genericPartNumber=TPA3110D2&fileType=pdf; ComponentLink3Description: Package Specification; ComponentLink3URL: http://www.ti.com/litv/pdf/mpds373
footprint TI-PWP28-5720X1950TP_N (SOP, 28-Leads, Body 9.8x4.5mm, Pitch 0.65mm, Thermal Pad 6.17x2.4mm, IPC Medium Density)
footprint TI-PWP28-5720X1950TP_L (SOP, 28-Leads, Body 9.8x4.5mm, Pitch 0.65mm, Thermal Pad 6.17x2.4mm, IPC High Density)
footprint TI-PWP28-5720X1950TP_M (SOP, 28-Leads, Body 9.8x4.5mm, Pitch 0.65mm, Thermal Pad 6.17x2.4mm, IPC Low Density)
part A pins: 1 ~{SD} (in) "Shutdown logic input for audio amp (LOW = outputs Hi-Z, HIGH = outputs enabled). TTL logic levels with compliance to AVCC.", 2 ~{FAULT} (oc) "Open drain output used to display short circuit or dc detect fault status. Voltage compliant to AVCC. Short circuit faults can be set to auto-recovery by connecting F\A\U\L\T\ pin to S\D\ pin. Otherwise, both short circuit (See Datasheet)", 3 LINP (in) "Positive audio input for left channel. Biased at 3V.", 4 LINN (in) "Negative audio input for left channel. Biased at 3V.", 5 GAIN0 (in) "Gain select least significant bit. TTL logic levels with compliance to AVCC.", 6 GAIN1 (in) "Gain select most significant bit. TTL logic levels with compliance to AVCC.", 10 PLIMIT (in) "Power limit level adjust. Connect a resistor divider from GVDD to GND to set power limit. Connect directly to GVDD for no power limit", 11 RINN (in) "Negative audio input for right channel. Biased at 3V.", 12 RINP (in) "Positive audio input for right channel. Biased at 3V.", 13 NC "Not connected", 14 PBTL (in) "Parallel BTL mode switch", 17 BSPR "Bootstrap I/O for right channel, positive high-side FET.", 18 OUTPR (hiz) "Class-D H-bridge positive output for right channel.", 20 OUTNR (hiz) "Class-D H-bridge negative output for right channel.", 21 BSNR "Bootstrap I/O for right channel, negative high-side FET.", 22 BSNL "Bootstrap I/O for left channel, negative high-side FET.", 23 OUTNL (hiz) "Class-D H-bridge negative output for left channel.", 25 OUTPL (hiz) "Class-D H-bridge positive output for left channel.", 26 BSPL "Bootstrap I/O for left channel, positive high-side FET."
part B pins: 7 AVCC (power) "Analog supply", 8 AGND (power) "Analog signal ground. Connect to the thermal pad.", 9 GVDD (power) "High-side FET gate drive supply. Nominal voltage is 7V. Also should be used as supply for PLIMIT function", 15 PVCCR (power) "Power supply for right channel H-bridge. Right channel and left channel power supply inputs are connect internally", 16 PVCCR (power) "Power supply for right channel H-bridge. Right channel and left channel power supply inputs are connect internally.", 19 PGND (power) "Power ground for the H-bridges.", 24 PGND (power) "Power ground for the H-bridges.", 27 PVCCL (power) "Power supply for left channel H-bridge. Right channel and left channel power supply inputs are connect internally", 28 PVCCL (power) "Power supply for left channel H-bridge. Right channel and left channel power supply inputs are connect internally", 29 EP (power)

## TPA3111D1PWP
designator U?
10 W Mono Class-D Audio Power Amplifier with SpeakerGuard(TM), -40 to 85 degC, 28-pin SOP (PWP28), Green (RoHS & no Sb/Br); Manufacturer: Texas Instruments; PartNumber: TPA3111D1PWP; Analog Supply Max [V]: 26; Analog Supply Min [V]: 8; Input Type: Analog; Max. Number of Speaker Outputs: 1; SubFamily: Mid/High-Power Amplifier; DatasheetVersion: SLOS618C; PackageVersion: 4073225-6/I, 05/2011; PackageReference: PWP28-5720X1950TP; PackageDescription: 28-Pin Plastic Small Outline, Body 4.4 x 9.7 mm, Pitch 0.65 mm; Supplier 1: Digi-Key; Supplier Part Number 1: 296-25128-5-ND; Supplier 2: Farnell; Supplier Part Number 2: 2323268; Supplier 3: Newark; Supplier Part Number 3: 96W3389; Supplier 4: Newark; Supplier Part Number 4: 26R5217; Supplier 5: Mouser; Supplier Part Number 5: 595-TPA3111D1PWP; Eco-Plan: Green (RoHS & no Sb/Br); Power Stage Supply Min(V): 8; Mounting Technology: Surface Mount; Code_JEDEC: MO-153; ComponentLink1Description: Manufacturer URL; ComponentLink1URL: http://www.ti.com/; ComponentLink2Description: Datasheet; ComponentLink2URL: http://www.ti.com/general/docs/lit/getliterature.tsp?genericPartNumber=TPA3111D1&fileType=pdf; ComponentLink3Description: Package Specification; ComponentLink3URL: http://www.ti.com/litv/pdf/mpds373
footprint TI-PWP28-5720X1950TP_N (SOP, 28-Leads, Body 9.8x4.5mm, Pitch 0.65mm, Thermal Pad 6.17x2.4mm, IPC Medium Density)
footprint TI-PWP28-5720X1950TP_L (SOP, 28-Leads, Body 9.8x4.5mm, Pitch 0.65mm, Thermal Pad 6.17x2.4mm, IPC High Density)
footprint TI-PWP28-5720X1950TP_M (SOP, 28-Leads, Body 9.8x4.5mm, Pitch 0.65mm, Thermal Pad 6.17x2.4mm, IPC Low Density)
part A pins: 1 ~{SD} (in) "Shutdown logic input for audio amp(LOW = outputs Hi-Z, HIGH = outputs enabled). TTL logic levels with compliance to AVCC.", 2 ~{FAULT} (oc) "Open drain output used to display short circuit or dc detect fault status. Voltage compliant to AVCC. Short circuit faults can be set to auto-recovery by connecting F\A\U\L\T\ pin to S\D\ pin. Otherwise bothe short circuit (See Datasheet)", 5 GAIN0 (in) "Gain select least significant bit. TTL logic levels with compliance to AVCC.", 6 GAIN1 (in) "Gain select most significant bit. TTL logic levels with compliance to AVCC.", 10 PLIMIT (in) "Power limit level adjust. Connect directly to GVDD pin for no power limiting. Add a 1uF cap to ground at this pin.", 11 INN (in) "Negative audio input. Biased at 3V.", 12 INP (in) "Positive audio input. Biased at 3V.", 13 NC "Not connected", 17 BSP "Bootstrap I/O for positive high-side FET.", 18 OUTP (hiz) "Class-D H-bridge positive output.", 20 OUTP (hiz) "Class-D H-bridge positive output.", 21 BSP "Bootstrap I/O for positive high-side FET.", 22 BSN "Bootstrap I/O for negative high-side FET.", 23 OUTN (hiz) "Class-D H-bridge negative output.", 25 OUTN (hiz) "Class-D H-bridge negative output.", 26 BSN "Bootstrap I/O for negative high-side FET."
part B pins: 3 GND (power) "Connect to local ground", 4 GND (power) "Connect to local ground", 7 AVCC (power) "Analog supply.", 8 AGND (power) "Analog supply ground. Connect to the thermal pad.", 9 GVDD (power) "High-side FET gate drive supply. Nominal voltage is 7V. May also be used as supply for PLILMIT divider. Add a 1uF cap to ground at this pin.", 14 AVCC (power) "Connect AVCC supply to this pin", 15 PVCC (power) "Power supply for H-bridge. PVCC pins are also connected internally.", 16 PVCC (power) "Power supply for H-bridge. PVCC pins are also connected internally.", 19 PGND (power) "Power ground for the H-bridges.", 24 PGND (power) "Power ground for the H-bridges.", 27 PVCC (power) "Power supply for H-bridge. PVCC pins are also connected internally.", 28 PVCC (power) "Power supply for H-bridge. PVCC pins are also connected internally.", 29 EP (power)

## TPA3111D1PWPR
designator U?
10 W Mono Class-D Audio Power Amplifier with SpeakerGuard(TM), -40 to 85 degC, 28-pin SOP (PWP28), Green (RoHS & no Sb/Br); Manufacturer: Texas Instruments; PartNumber: TPA3111D1PWPR; Analog Supply Max [V]: 26; Analog Supply Min [V]: 8; Input Type: Analog; Max. Number of Speaker Outputs: 1; SubFamily: Mid/High-Power Amplifier; DatasheetVersion: SLOS618C; PackageVersion: 4073225-6/I, 05/2011; PackageReference: PWP28-5720X1950TP; PackageDescription: 28-Pin Plastic Small Outline, Body 4.4 x 9.7 mm, Pitch 0.65 mm; Supplier 1: Digi-Key; Supplier Part Number 1: 296-25121-2-ND; Supplier 2: Digi-Key; Supplier Part Number 2: 296-25121-1-ND; Supplier 3: Digi-Key; Supplier Part Number 3: 296-25121-6-ND; Supplier 4: Farnell; Supplier Part Number 4: 2348013; Supplier 5: Newark; Supplier Part Number 5: 50R8087; Supplier 6: Newark; Supplier Part Number 6: 87W8577; Supplier 7: Mouser; Supplier Part Number 7: 595-TPA3111D1PWPR; Eco-Plan: Green (RoHS & no Sb/Br); Power Stage Supply Min(V): 8; Mounting Technology: Surface Mount; Code_JEDEC: MO-153; ComponentLink1Description: Manufacturer URL; ComponentLink1URL: http://www.ti.com/; ComponentLink2Description: Datasheet; ComponentLink2URL: http://www.ti.com/general/docs/lit/getliterature.tsp?genericPartNumber=TPA3111D1&fileType=pdf; ComponentLink3Description: Package Specification; ComponentLink3URL: http://www.ti.com/litv/pdf/mpds373
footprint TI-PWP28-5720X1950TP_N (SOP, 28-Leads, Body 9.8x4.5mm, Pitch 0.65mm, Thermal Pad 6.17x2.4mm, IPC Medium Density)
footprint TI-PWP28-5720X1950TP_L (SOP, 28-Leads, Body 9.8x4.5mm, Pitch 0.65mm, Thermal Pad 6.17x2.4mm, IPC High Density)
footprint TI-PWP28-5720X1950TP_M (SOP, 28-Leads, Body 9.8x4.5mm, Pitch 0.65mm, Thermal Pad 6.17x2.4mm, IPC Low Density)
part A pins: 1 ~{SD} (in) "Shutdown logic input for audio amp(LOW = outputs Hi-Z, HIGH = outputs enabled). TTL logic levels with compliance to AVCC.", 2 ~{FAULT} (oc) "Open drain output used to display short circuit or dc detect fault status. Voltage compliant to AVCC. Short circuit faults can be set to auto-recovery by connecting F\A\U\L\T\ pin to S\D\ pin. Otherwise bothe short circuit (See Datasheet)", 5 GAIN0 (in) "Gain select least significant bit. TTL logic levels with compliance to AVCC.", 6 GAIN1 (in) "Gain select most significant bit. TTL logic levels with compliance to AVCC.", 10 PLIMIT (in) "Power limit level adjust. Connect directly to GVDD pin for no power limiting. Add a 1uF cap to ground at this pin.", 11 INN (in) "Negative audio input. Biased at 3V.", 12 INP (in) "Positive audio input. Biased at 3V.", 13 NC "Not connected", 17 BSP "Bootstrap I/O for positive high-side FET.", 18 OUTP (hiz) "Class-D H-bridge positive output.", 20 OUTP (hiz) "Class-D H-bridge positive output.", 21 BSP "Bootstrap I/O for positive high-side FET.", 22 BSN "Bootstrap I/O for negative high-side FET.", 23 OUTN (hiz) "Class-D H-bridge negative output.", 25 OUTN (hiz) "Class-D H-bridge negative output.", 26 BSN "Bootstrap I/O for negative high-side FET."
part B pins: 3 GND (power) "Connect to local ground", 4 GND (power) "Connect to local ground", 7 AVCC (power) "Analog supply.", 8 AGND (power) "Analog supply ground. Connect to the thermal pad.", 9 GVDD (power) "High-side FET gate drive supply. Nominal voltage is 7V. May also be used as supply for PLILMIT divider. Add a 1uF cap to ground at this pin.", 14 AVCC (power) "Connect AVCC supply to this pin", 15 PVCC (power) "Power supply for H-bridge. PVCC pins are also connected internally.", 16 PVCC (power) "Power supply for H-bridge. PVCC pins are also connected internally.", 19 PGND (power) "Power ground for the H-bridges.", 24 PGND (power) "Power ground for the H-bridges.", 27 PVCC (power) "Power supply for H-bridge. PVCC pins are also connected internally.", 28 PVCC (power) "Power supply for H-bridge. PVCC pins are also connected internally.", 29 EP (power)